# Altium footprint library trimble.PCBLIB: 5 footprints
Each footprint in its own frame and in the unit in brackets; x right, y up, seen from the top. Pads: shape width x height; smd on the part's side, far side on the other; paste and mask are expansions set on the pad; w line width, h text height; cw(c..) or ccw(c..) is an arc to the next point about the centre after c.
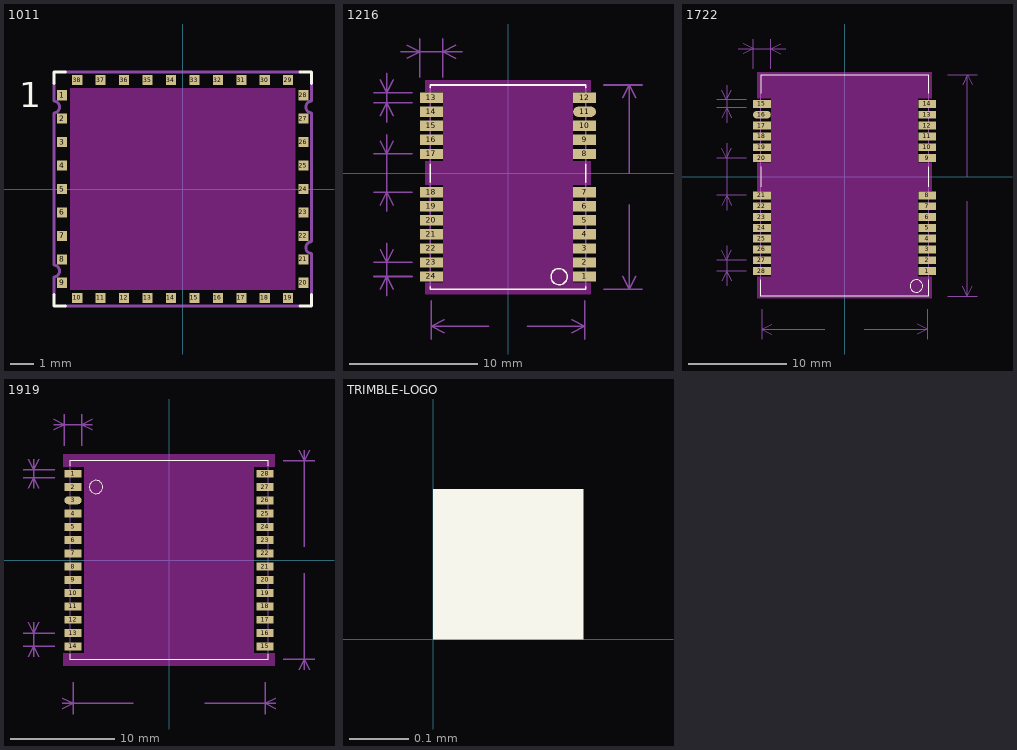
[diagram p0: the footprints below, top view; thin cyan lines are the x and y axes]

## 1011 [mm]
pads (38):
  rect 0.43x0.43 smd: 1(-5.145,4) 2(-5.145,3) 3(-5.145,2) 4(-5.145,1) 5(-5.145,0) 6(-5.145,-1) 7(-5.145,-2) 8(-5.145,-3) 9(-5.145,-4) 10(-4.5,-4.645) 11(-3.5,-4.645) 12(-2.5,-4.645) 13(-1.5,-4.645) 14(-0.5,-4.645) 15(0.5,-4.645) 16(1.5,-4.645) 17(2.5,-4.645) 18(3.5,-4.645) 19(4.5,-4.645) 20(5.145,-4) 21(5.145,-3) 22(5.145,-2) 23(5.145,-1) 24(5.145,0) 25(5.145,1) 26(5.145,2) 27(5.145,3) 28(5.145,4) 29(4.5,4.645) 30(3.5,4.645) 31(2.5,4.645) 32(1.5,4.645) 33(0.5,4.645) 34(-0.5,4.645) 35(-1.5,4.645) 36(-2.5,4.645) 37(-3.5,4.645) 38(-4.5,4.645)
Top Layer keep-out:
  rectangle: -4.81,-4.31 4.81,4.31
Top Overlay:
  lines w0.127: -5.5,-4.5 -5.5,-5 -5,-5 ; -5.5,4.5 -5.5,5 -5,5 ; 5,-5 5.5,-5 5.5,-4.5 ; 5,5 5.5,5 5.5,4.5
  text "1" at -6.985,3.492 h1.08
Top Solder:
  rectangle: -5.815,-5.315 5.815,5.315
Mechanical 16:
  lines w0.127: -5.5,-4.5 -5.5,-3.75 ccw(c-5.5,-3.5) -5.5,-3.25 -5.5,3.25 ccw(c-5.5,3.5) -5.5,3.75 -5.5,4.5 ; -5,-5 5,-5 ; -5,5 5,5 ; 5.5,-4.5 5.5,-2.75 cw(c5.5,-2.5) 5.5,-2.25 5.5,3.25 cw(c5.5,3.5) 5.5,3.75 5.5,4.5

## 1216 [mm]
pads (24):
  rect 1.8x0.8 smd: 1(6,-8.1) 2(6,-7) 3(6,-5.9) 4(6,-4.8) 5(6,-3.7) 6(6,-2.6) 7(6,-1.5) 8(6,1.5) 9(6,2.6) 10(6,3.7) 12(6,5.9) 13(-6,5.9) 14(-6,4.8) 15(-6,3.7) 16(-6,2.6) 17(-6,1.5) 18(-6,-1.5) 19(-6,-2.6) 20(-6,-3.7) 21(-6,-4.8) 22(-6,-5.9) 23(-6,-7) 24(-6,-8.1)
  rrect100% 1.8x0.8 smd: 11(6,4.8)
Top Layer keep-out:
  rectangle: -6.509,-9.525 6.509,-8.572
  rectangle: -5.08,-8.572 5.08,6.35
  rectangle: -6.509,6.35 6.509,7.302
  rectangle: 5.08,-0.953 6.509,0.953
  rectangle: -6.509,-0.953 -5.08,0.953
Top Overlay:
  circle w0.1: c4.003,-8.113 r0.635
  lines w0.127: -6.1,-8.9 -6.1,-9.1 6.1,-9.1 6.1,-8.9 ; -6.1,-0.7 -6.1,0.7 ; -6.1,6.7 -6.1,6.9 6.1,6.9 6.1,6.7 ; 6.1,-0.7 6.1,0.7
Top Solder:
  rectangle: -7.1,-9.1 7.1,6.9
Mechanical 12:
  lines w0.127: -10.5,-8.1 -7.5,-8.1 ; -10.5,-7 -7.5,-7 ; -10.5,-1.5 -7.5,-1.5 ; -10.5,1.5 -7.5,1.5 ; -10.5,5.5 -7.5,5.5 ; -10.5,6.3 -7.5,6.3 ; -10,-9.1 -9.5,-8.1 -9,-9.1 ; -10,-6 -9.5,-7 -9,-6 ; -10,-2.5 -9.5,-1.5 -9,-2.5 ; -10,2.5 -9.5,1.5 -9,2.5 ; -10,4.5 -9.5,5.5 -9,4.5 ; -10,7.3 -9.5,6.3 -9,7.3 ; -9.5,-9.6 -9.5,-5.5 ; -9.5,-3 -9.5,3 ; -9.5,4 -9.5,7.8 ; -8.4,9.5 -3.6,9.5 ; -7.9,9 -6.9,9.5 -7.9,10 ; -6.9,7.5 -6.9,10.5 ; -6,-13 -6,-12 ; -6,-10 -6,-12 ; -5.1,7.5 -5.1,10.5 ; -5,-12.5 -6,-12 ; -5,-11.5 -6,-12 ; -4.1,9 -5.1,9.5 -4.1,10 ; -1.5,-12 -6,-12 ; 1.5,-12 6,-12 ; 5,-12.5 6,-12 ; 5,-11.5 6,-12 ; 6,-13 6,-12 ; 6,-10 6,-12 ; 7.5,-9.1 9.5,-9.1 ; 7.5,6.9 9.5,6.9 ; 9,-8.1 9.5,-9.1 ; 9,5.9 9.5,6.9 ; 9.5,-2.5 9.5,-9.1 ; 9.5,0 9.5,6.9 ; 10,-8.1 9.5,-9.1 ; 10,5.9 9.5,6.9 ; 10.5,-9.1 9.5,-9.1 ; 10.5,6.9 9.5,6.9
  text "12" at -0.8,-12.5 h0.86
  text "0.8" at -11.5,4.8 h0.86
  text "3.0" at -11.5,-1.1 h0.86
  text "1.1" at -11.5,-8.6 h0.86
  text "1.8" at -7,11.5 h0.86
  text "16" at 8.7,-1.7 h0.86
Mechanical 16:
  lines w0.127: -6.1,-8.9 -6.1,-0.7 ; -6.1,0.7 -6.1,6.7 ; 6.1,-8.9 6.1,-0.7 ; 6.1,0.7 6.1,6.7

## 1722 [mil]
pads (28):
  rect 70.87x31.5 smd: 1(330.71,-377.95) 2(330.71,-334.65) 3(330.71,-291.34) 4(330.71,-248.03) 5(330.71,-204.72) 6(330.71,-161.42) 7(330.71,-118.11) 8(330.71,-74.8) 9(330.71,74.8) 10(330.71,118.11) 11(330.71,161.42) 12(330.71,204.72) 13(330.71,248.03) 14(330.71,291.34) 15(-330.71,291.34) 17(-330.71,204.72) 18(-330.71,161.42) 19(-330.71,118.11) 20(-330.71,74.8) 21(-330.71,-74.8) 22(-330.71,-118.11) 23(-330.71,-161.42) 24(-330.71,-204.72) 25(-330.71,-248.03) 26(-330.71,-291.34) 27(-330.71,-334.65) 28(-330.71,-377.95)
  rrect100% 70.87x31.5 smd: 16(-330.71,248.03)
Top Layer keep-out:
  rectangle: -350,312.5 350,418.75
  rectangle: -293.75,-400 293.75,312.5
  rectangle: -350,-487.5 350,-400
  rectangle: 293.75,-56.25 350,56.25
  rectangle: -350,-56.25 -293.75,56.25
Top Overlay:
  circle w3.94: c287.5,-437.5 r25
  lines w5: -334.65,-413.39 -334.65,-478.35 334.65,-478.35 334.65,-413.39 ; -334.65,-39.37 -334.65,39.37 ; -334.65,334.65 -334.65,407.09 334.65,407.09 334.65,334.65 ; 334.65,-39.37 334.65,39.37
Top Solder:
  rectangle: -375.98,-478.35 375.98,407.48
Mechanical 12:
  lines w5: -511.81,-377.95 -393.7,-377.95 ; -511.81,-334.65 -393.7,-334.65 ; -511.81,-74.8 -393.7,-74.8 ; -511.81,74.8 -393.7,74.8 ; -511.81,275.59 -393.7,275.59 ; -511.81,307.09 -393.7,307.09 ; -492.13,-417.32 -472.44,-377.95 -452.76,-417.32 ; -492.13,-295.28 -472.44,-334.65 -452.76,-295.28 ; -492.13,-114.17 -472.44,-74.8 -452.76,-114.17 ; -492.13,114.17 -472.44,74.8 -452.76,114.17 ; -492.13,236.22 -472.44,275.59 -452.76,236.22 ; -492.13,346.46 -472.44,307.09 -452.76,346.46 ; -472.44,-437.01 -472.44,-275.59 ; -472.44,-133.86 -472.44,133.86 ; -472.44,216.54 -472.44,366.14 ; -425.2,511.81 -236.22,511.81 ; -405.51,492.13 -366.14,511.81 -405.51,531.5 ; -366.14,433.07 -366.14,551.18 ; -330.71,-649.61 -330.71,-610.24 ; -330.71,-531.5 -330.71,-610.24 ; -295.28,433.07 -295.28,551.18 ; -291.34,-629.92 -330.71,-610.24 ; -291.34,-590.55 -330.71,-610.24 ; -255.91,492.13 -295.28,511.81 -255.91,531.5 ; -78.74,-610.24 -330.71,-610.24 ; 78.74,-610.24 330.71,-610.24 ; 291.34,-629.92 330.71,-610.24 ; 291.34,-590.55 330.71,-610.24 ; 330.71,-649.61 330.71,-610.24 ; 330.71,-531.5 330.71,-610.24 ; 413.39,-478.35 492.13,-478.35 ; 413.39,407.09 492.13,407.09 ; 472.44,-438.98 492.13,-478.35 ; 472.44,367.72 492.13,407.09 ; 492.13,-98.43 492.13,-478.35 ; 492.13,0 492.13,407.09 ; 511.81,-438.98 492.13,-478.35 ; 511.81,367.72 492.13,407.09 ; 531.5,-478.35 492.13,-478.35 ; 531.5,407.09 492.13,407.09
  text "16.8" at -62.99,-629.92 h34
  text "0.8" at -551.18,248.03 h34
  text "3.8" at -551.18,-43.31 h34
  text "1.1" at -551.18,-397.64 h34
  text "1.8" at -370.08,590.55 h34
  text "22.5" at 425.2,-66.93 h34
Mechanical 16:
  lines w5: -334.65,-413.39 -334.65,-39.37 ; -334.65,39.37 -334.65,334.65 ; 334.65,-413.39 334.65,-39.37 ; 334.65,39.37 334.65,334.65

## 1919 [mil]
pads (28):
  rect 65x30 smd: 1(-361.5,325) 2(-361.5,275) 4(-361.5,175) 5(-361.5,125) 6(-361.5,75) 7(-361.5,25) 8(-361.5,-25) 9(-361.5,-75) 10(-361.5,-125) 11(-361.5,-175) 12(-361.5,-225) 13(-361.5,-275) 14(-361.5,-325) 15(361.5,-325) 16(361.5,-275) 17(361.5,-225) 18(361.5,-175) 19(361.5,-125) 20(361.5,-75) 21(361.5,-25) 22(361.5,25) 23(361.5,75) 24(361.5,125) 25(361.5,175) 26(361.5,225) 27(361.5,275) 28(361.5,325)
  rrect100% 65x30 smd: 3(-361.5,225)
Top Layer keep-out:
  region: -320,400 -320,-400 320,-400 320,400
  region: 320,-350 320,-400 400,-400 400,-350
  region: 320,400 320,350 400,350 400,400
  region: -400,400 -400,350 -320,350 -320,400
  region: -400,-350 -400,-400 -320,-400 -320,-350
Top Overlay:
  circle w3.94: c-275,275 r25
  lines w3.94: -374.02,-354.33 -374.02,-374.02 374.02,-374.02 374.02,-354.33 ; -374.02,354.33 -374.02,374.02 374.02,374.02 374.02,354.33
Top Solder:
  region: -399,399 -399,-399 399,-399 399,399
Mechanical 12:
  lines w5: -550,-325 -510,-325 ; -550,-275 -430,-275 ; -550,310 -510,310 ; -550,340 -430,340 ; -530,-365 -510,-325 ; -530,-235 -510,-275 ; -530,270 -510,310 ; -530,380 -510,340 ; -510,-365 -510,-325 ; -510,-235 -510,-275 ; -510,270 -510,310 ; -510,380 -510,340 ; -490,-365 -510,-325 ; -490,-235 -510,-275 ; -490,270 -510,310 ; -490,380 -510,340 ; -434,490 -394,510 ; -434,510 -394,510 ; -434,530 -394,510 ; -430,-325 -510,-325 ; -430,310 -510,310 ; -401.5,-560 -361.5,-540 ; -401.5,-540 -361.5,-540 ; -401.5,-520 -361.5,-540 ; -394,430 -394,510 ; -394,550 -394,510 ; -361.5,-580 -361.5,-540 ; -361.5,-460 -361.5,-540 ; -329,430 -329,550 ; -289,490 -329,510 ; -289,510 -329,510 ; -289,530 -329,510 ; -135,-540 -361.5,-540 ; 135,-540 361.5,-540 ; 361.5,-580 361.5,-540 ; 361.5,-460 361.5,-540 ; 401.5,-560 361.5,-540 ; 401.5,-540 361.5,-540 ; 401.5,-520 361.5,-540 ; 429.69,-374.02 549.69,-374.02 ; 429.69,374.02 509.69,374.02 ; 489.69,-414.02 509.69,-374.02 ; 489.69,414.02 509.69,374.02 ; 509.69,-414.02 509.69,-374.02 ; 509.69,-50 509.69,-374.02 ; 509.69,50 509.69,374.02 ; 509.69,414.02 509.69,374.02 ; 529.69,-414.02 509.69,-374.02 ; 529.69,414.02 509.69,374.02 ; 549.69,374.02 509.69,374.02 ; -510,-325 -510,-275 ; -510,310 -510,340 ; -394,510 -329,510
  text "1.27" at -590,-355 h34
  text "0.762" at -595,240 h34
  text "1.651" at -430,595 h34
  text "18.3642" at -115,-560 h34
  text "19.0" at 450,-15 h34
Mechanical 16:
  lines w3.94: -374.02,-354.33 -374.02,354.33 ; 374.02,-354.33 374.02,354.33

## TRIMBLE-LOGO [mm]
Top Overlay:
  region: 0,0 0.254,0 0.254,0.254 0,0.254
  region: 0,0 0.254,0 0.254,0.254 0,0.254
  region: 0,0 0.254,0 0.254,0.254 0,0.254
  region: 0,0 0.254,0 0.254,0.254 0,0.254
  region: 0,0 0.254,0 0.254,0.254 0,0.254
  region: 0,0 0.254,0 0.254,0.254 0,0.254
  region: 0,0 0.254,0 0.254,0.254 0,0.254
  region: 0,0 0.254,0 0.254,0.254 0,0.254
  region: 0,0 0.254,0 0.254,0.254 0,0.254
  region: 0,0 0.254,0 0.254,0.254 0,0.254
  region: 0,0 0.254,0 0.254,0.254 0,0.254
  region: 0,0 0.254,0 0.254,0.254 0,0.254
  region: 0,0 0.254,0 0.254,0.254 0,0.254
  region: 0,0 0.254,0 0.254,0.254 0,0.254
  region: 0,0 0.254,0 0.254,0.254 0,0.254
  region: 0,0 0.254,0 0.254,0.254 0,0.254
  region: 0,0 0.254,0 0.254,0.254 0,0.254